# EAGLE library part MAX185X (library Bauteile)
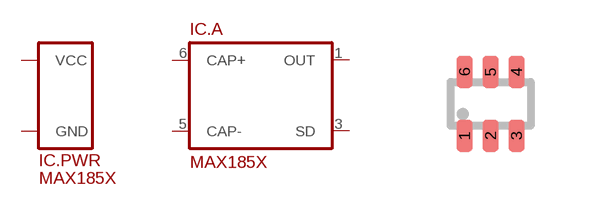
[diagram p57: symbol with the pads of SOT363; footprint SOT363]

Designator prefix IC; gates .PWR=SUPPLY_VCC/GND .A=MAX185X

## MAX185X  [SOT363]
1  .A:OUT
2  .PWR:GND
3  .A:SD
4  .PWR:VCC
5  .A:CAP-
6  .A:CAP+

## Footprint SOT363 (pad centres in mm)
SOT363 SC70-6 SC88 TSSOP-6 UMT6 US6 S-Mini6
smd 0.4 x 0.8: 1 -0.65,-0.8; 2 0,-0.8; 3 0.65,-0.8; 4 0.65,0.8; 5 0,0.8; 6 -0.65,0.8